# EAGLE library part CH340E (library UNIT_Biblioteca_Modulos)
Source: Datasheet SKU: SMT Propietario: UNIT Electronics Desarrollador:
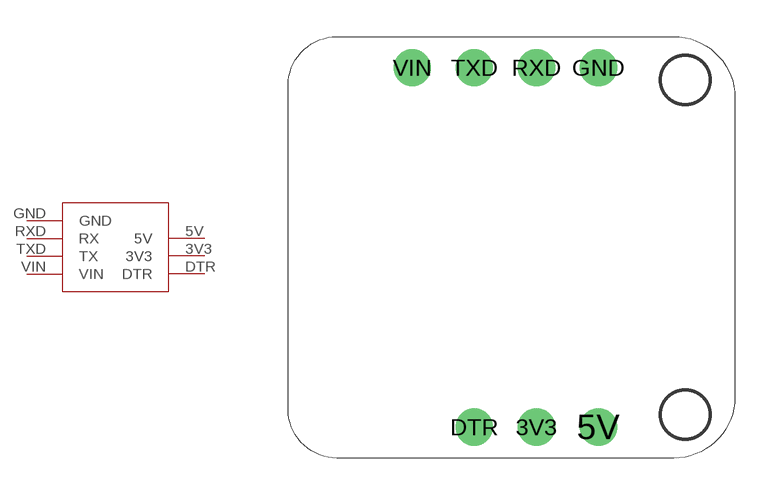
[diagram p15: symbol with the pads of CH340_SILKSCREEN; footprint CH340_SILKSCREEN]

Designator prefix J

## CH340E (CLASS: Modules; DESCRIPTION: UE0010-CH340E; MANUFACTURER_NAME: UNIT Electronics; MANUFACTURER_PART_NUMBER: UE0010; SKU: UE0010; VENDOR_PART_NUMBER: AR3788; VENDOR_PRICE-STOCK: https://uelectronics.com/producto/unit-ch340e-modulo-usb-a-ttl/)  [CH340_SILKSCREEN]
3V3  3V3
5V  5V
DTR  DTR
GND  GND
RXD  RX
TXD  TX
VIN  VIN

## Footprint CH340_SILKSCREEN (pad centres in mm)
drill 1.02: 3V3 10.16,1.269; 5V 12.7,1.269; DTR 7.62,1.269; GND 12.7,16.001; RXD 10.16,16.001; TXD 7.62,16.001; VIN 5.08,16.001